# Altium schematic symbol library WPME-LDHM.SchLib: 1 symbol
Pins are listed as number, name and electrical type; pins without a type are passive.

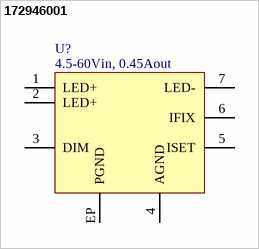
[diagram p0: symbol 172946001]

## 172946001
designator U?, comment 4.5-60Vin, 0.45Aout
WPME-LDHM LED Step Down High Current Module, SMT, TO263-7EP, 4.5-60Vin, 0.45Aout; Manufacturer Part Number: 172946001; Manufacturer: Wurth Elektronik; Input Voltage Min: 4.5V; Input Voltage Max: 60V; Output Current: 0.45A; Category: LED Driver; Match Code: WPME-LDHM; ComponentLink1Description: Website Link; ComponentLink1URL: https://www.we-online.com/redexpert/article/172946001?ad; ComponentLink2Description: Datasheet Link; ComponentLink2URL: https://www.we-online.com/redexpert/spec/172946001?ad; Mount: Surface Mount; Min Operating Temperature: -40°C; Max Operating Temperature: 125°C; Packaging: Tape and Reel; Case/Size Code: TO263-7EP; Length: 13.77mm; Width: 10.16mm; Height: 4.57mm; Output Voltage Min: 4.5V; Output Voltage Max: 60V
footprint WPME-LDHM_TO263-7EP
pins: 1 LED+, 2 LED+, 3 DIM, 4 AGND, 5 ISET, 6 IFIX, 7 LED-, EP PGND